# Altium schematic symbol library LibreriaCircuitoInterfac_SCH.SchLib: 4 symbols
Pins are listed as number, name and electrical type; pins without a type are passive.

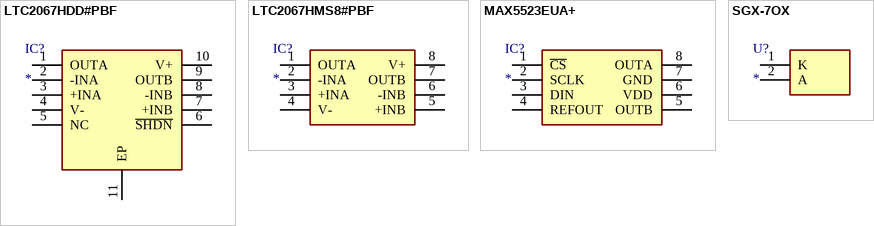
[diagram p0: symbols LTC2067HDD#PBF to SGX-7OX]

## LTC2067HDD#PBF
designator IC?
Integrated Circuit; Manufacturer_Name: Analog Devices; Manufacturer_Part_Number: LTC2067HDD#PBF; Datasheet Link: https://datasheet.datasheetarchive.com/originals/distributors/DKDS41/DSANUWW0020938.pdf; Height: 0.8mm; Mouser Part Number: 584-LTC2067HDD#PBF; Mouser Price/Stock: https://www.mouser.com/Search/Refine.aspx?Keyword=584-LTC2067HDD%23PBF; Arrow Part Number: LTC2067HDD#PBF; Arrow Price/Stock: https://www.arrow.com/en/products/ltc2067hddpbf/analog-devices
footprint LTC2067HDD#PBF
pins: 1 OUTA, 2 -INA, 3 +INA, 4 V-, 5 NC, 6 ~{SHDN}, 7 +INB, 8 -INB, 9 OUTB, 10 V+, 11 EP

## LTC2067HMS8#PBF
designator IC?
Integrated Circuit; Manufacturer_Name: Analog Devices; Manufacturer_Part_Number: LTC2067HMS8#PBF; Datasheet Link: https://www.analog.com/media/en/technical-documentation/data-sheets/LTC2066-2067.pdf; Height: 1.1mm; Mouser Part Number: 584-LTC2067HMS8#PBF; Mouser Price/Stock: https://www.mouser.co.uk/ProductDetail/Analog-Devices/LTC2067HMS8PBF?qs=w%2Fv1CP2dgqrxyuzCOwIzUQ%3D%3D; Arrow Part Number: LTC2067HMS8#PBF; Arrow Price/Stock: https://www.arrow.com/en/products/ltc2067hms8pbf/analog-devices
footprint LTC2067HMS8#PBF
pins: 1 OUTA, 2 -INA, 3 +INA, 4 V-, 5 +INB, 6 -INB, 7 OUTB, 8 V+

## MAX5523EUA+
designator IC?
Integrated Circuit; Manufacturer_Name: Analog Devices; Manufacturer_Part_Number: MAX5523EUA+; Datasheet Link: https://pdfserv.maximintegrated.com/en/ds/MAX5522-MAX5525.pdf; Height: 1.1mm; Mouser Part Number: 700-MAX5523EUA; Mouser Price/Stock: https://www.mouser.co.uk/ProductDetail/Analog-Devices-Maxim-Integrated/MAX5523EUA%2b?qs=9Cj2FLRihcNj5G7tv6WL1A%3D%3D
footprint MAX5523EUA+
pins: 1 ~{CS}, 2 SCLK, 3 DIN, 4 REFOUT, 5 OUTB, 6 VDD, 7 GND, 8 OUTA

## SGX-7OX
designator U?
Undefined or Miscellaneous; Manufacturer_Name: Amphenol; Manufacturer_Part_Number: SGX-7OX; Datasheet Link: https://www.sgxsensortech.com/content/uploads/2019/07/DS-0147-SGX-7OX-datasheet-v7.pdf; Height: 16.55mm; Mouser Part Number: 523-SGX-7OX; Mouser Price/Stock: https://www.mouser.co.uk/ProductDetail/Amphenol-SGX-Sensortech/SGX-7OX?qs=0lSvoLzn4L%252B5zpn%2FQ%252BbQpA%3D%3D
footprint SGX7OX
pins: 1 K, 2 A